# Altium schematic symbol library Diode - 1N4148.SchLib: 1 symbol
Pins are listed as number, name and electrical type; pins without a type are passive.

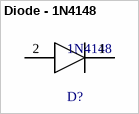
[diagram p0: symbol Diode - 1N4148]

## Diode - 1N4148
designator D?, comment 1N4148
Reverse Voltage: 100V; Forward Voltage: 1V; Max Power Dissipation: 500mW; Average Rectified Current: 200mA; Max Reverse Current: 5uA; Forward Current: 300mA; Current: 4A; Reverse Recovery Time: 4ns; Element Configuration: Single; Outside Diameter: 1.85mm; Polarity: Standard; Max Forward Surge Current (Ifsm): 1A; Capacitance: 4pF; Diameter: 1.91mm; Max Repetitive Reverse Voltage (Vrrm): 100V; Current Rating: 200mA; Case/Package: DO-35; Lead Free: Lead Free; Number of Pins: 2; Recovery Time: 4ns; Packaging: Bulk; Contact Plating: Tin; Voltage: 100V; Mount: Through Hole; Max Surge Current: 4A; Package Quantity: 2000; Width: 1.91mm; Max Reverse Voltage (DC): 100V; Length: 4.56mm; Radiation Hardening: No; Power Dissipation: 500mW; Voltage Rating (DC): 100V; REACH SVHC: No SVHC; Height: 4.56mm; Max Operating Temperature: 175°C; Series: -; Weight: 0.01lb; Min Operating Temperature: -65°C; Output Current: 200mA; Peak Non-Repetitive Surge Current: 4A
footprint FP-017AG-MFG
pins: 1 C, 2 A